# Altium footprint library atmega16820au.PcbLib: 13 footprints
Each footprint in its own frame and in the unit in brackets; x right, y up, seen from the top. Pads: shape width x height; smd on the part's side, far side on the other; paste and mask are expansions set on the pad; w line width, h text height; cw(c..) or ccw(c..) is an arc to the next point about the centre after c.
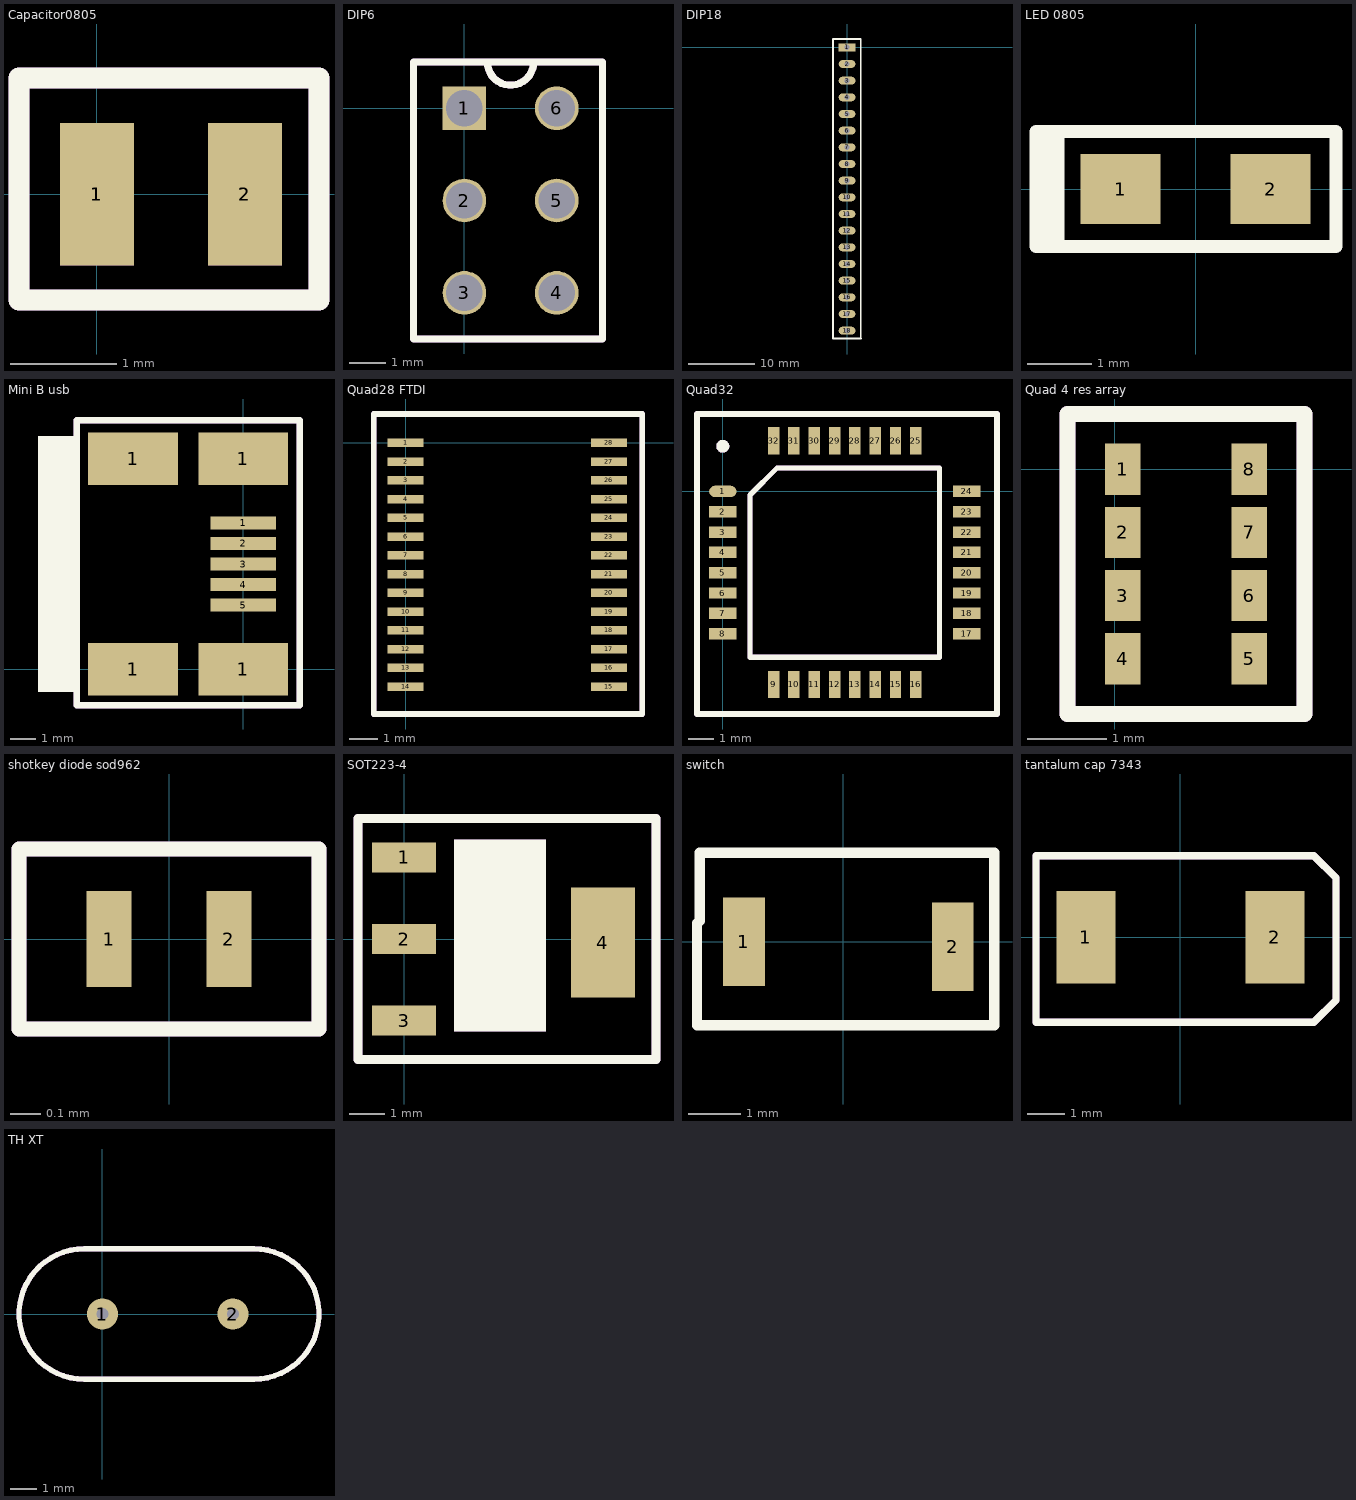
[diagram p0: the footprints below, top view; thin cyan lines are the x and y axes]

## Capacitor0805 [mm]
pads (4):
  rect 0.7x1.35 smd: 1(0,0) 2(1.4,0)
  rect 0.7x1.35 on Mech29: 1(0,0) 2(1.4,0)
Top Overlay:
  lines w0.2: -0.7,-1 -0.737,-1 ; 2.075,-1 0.637,-1 -0.737,-1 ; 2.1,-1 2.1,1.1 -0.737,1.1 -0.737,-1
Mechanical 29 (Mech29):
  lines w0.2: -0.7,-1 -0.737,-1 ; 2.075,-1 0.637,-1 -0.737,-1 ; 2.1,-1 2.1,1.1 -0.737,1.1 -0.737,-1
  text "Designator" at 0.8,0.333 h0.7
3D body "c0805c101k5gactu.stp": height 0.89, standoff 0.01, extent -0.4,-0.7 1.8,0.75
3D body "c0805c101k5gactu.stp": height 0.89, standoff 0.01, extent -0.4,-0.7 1.8,0.75

## DIP6 [mm]
pads (6):
  rect 1.2x1.2 hole 1: 1(0,0)
  round 1.2 hole 1: 2(0,-2.54) 3(0,-5.08) 4(2.54,-5.08) 5(2.54,-2.54) 6(2.54,0)
Top Overlay:
  lines w0.2: -1.4,-6.35 3.8,-6.35 3.8,1.27 0.635,1.27 ccw(c1.27,1.27) 1.905,1.27 -1.4,1.27 -1.4,-6.35
Mechanical 29 (Mech29):
  lines w0.2: -1.4,-6.35 3.8,-6.35 3.8,1.27 0.635,1.27 ccw(c1.27,1.27) 1.905,1.27 -1.4,1.27 -1.4,-6.35
  text "'.Designator'" at 1.5,-2.067 h0.7
3D body "User Library-HEADER, 2X3, 2_54MM X 2_54MM PITCH, VERT, TH.step": height 8.39, standoff -3.8, extent -1.3,-6.31 3.78,1.31

## DIP18 [mm]
pads (18):
  rect 2.5x1.2 hole 0.8: 1(0,0)
  oval 2.5x1.2 hole 0.8: 2(0,-2.5) 3(0,-5) 4(0,-7.5) 5(0,-10) 6(0,-12.5) 7(0,-15) 8(0,-17.5) 9(0,-20) 10(0,-22.5) 11(0,-25) 12(0,-27.5) 13(0,-30) 14(0,-32.5) 15(0,-35) 16(0,-37.5) 17(0,-40) 18(0,-42.5)
Top Overlay:
  lines w0.2: 2.05,1.25 2.085,1.215 2.085,-43.675
  lines w0.254: 2.05,1.25 -1.55,1.25 -2.1,1.25 -2.1,-43.675 2.085,-43.675

## LED 0805 [mm]
pads (2):
  rect 1.25x1.1 smd: 1(-1.175,0) 2(1.175,0)
Top Overlay:
  rectangle: -2.5,-0.9 -2.15,0.9
  lines w0.2: -2.15,-0.9 -2.5,-0.9 -2.5,0.9 -2.15,0.9 ; -2.15,-0.9 -2.15,0 -2.15,0.9 ; -2.15,-0.9 2.2,-0.9 2.2,0.9 -2.15,0.9
3D body "User Library-LED SMD0805.step": height 0.85, standoff 0.01, extent -1.031,-0.406 1.031,0.5

## Mini B usb [mm]
pads (9):
  rect 3.5x2.05 smd: 1(-4.3,0) 1(-4.3,8.2) 1(0,0) 1(0,8.2)
  rect 2.55x0.5 smd: 1(0,5.7) 2(0,4.9) 3(0,4.1) 4(0,3.3) 5(0,2.5)
Top Overlay:
  rectangle: -8,-0.9 -6.6,9.1
  lines w0.254: -6.5,-1.4 -6.5,9.7 2.2,9.7 2.2,-1.4 -6.5,-1.4
Mechanical 29 (Mech29):
  rectangle: -8,-0.9 -6.6,9.1
  lines w0.254: -6.5,-1.4 -6.5,9.7 2.2,9.7 2.2,-1.4 -6.5,-1.4
  text "'.Designator'" at -2.3,4.733 h0.7
3D body "usb_a-usb_b-m5-smd-c.stp": height 3.86, standoff -0.99, extent -8,-0.85 1.2,9.05

## Quad28 FTDI [mm]
pads (28):
  rect 1.25x0.3 smd: 1(0,0) 2(0,-0.65) 3(0,-1.3) 4(0,-1.95) 5(0,-2.6) 6(0,-3.25) 7(0,-3.9) 8(0,-4.55) 9(0,-5.2) 10(0,-5.85) 11(0,-6.5) 12(0,-7.15) 13(0,-7.8) 14(0,-8.45) 15(7.05,-8.45) 16(7.05,-7.8) 17(7.05,-7.15) 18(7.05,-6.5) 19(7.05,-5.85) 20(7.05,-5.2) 21(7.05,-4.55) 22(7.05,-3.9) 23(7.05,-3.25) 24(7.05,-2.6) 25(7.05,-1.95) 26(7.05,-1.3) 27(7.05,-0.65) 28(7.05,0)
Top Overlay:
  lines w0.2: -1.1,-9.4 8.2,-9.4 8.2,1 -1.1,1 -1.1,-9.4
Mechanical 29 (Mech29):
  lines w0.2: -1.1,-9.4 8.2,-9.4 8.2,1 -1.1,1 -1.1,-9.4
  text "'.Designator'" at 3.7,-3.367 h0.7
3D body "User Library-SSOP-28-3.STEP": height 1.9, standoff 0, extent -0.3,-9.3 7.5,0.9

## Quad32 [mm]
pads (32):
  oval 1.075x0.45 smd: 1(0,0)
  rect 1.075x0.45 smd: 2(0,-0.8) 3(0,-1.6) 4(0,-2.4) 5(0,-3.2) 6(0,-4) 7(0,-4.8) 8(0,-5.6) 17(9.6,-5.6) 18(9.6,-4.8) 19(9.6,-4) 20(9.6,-3.2) 21(9.6,-2.4) 22(9.6,-1.6) 23(9.6,-0.8) 24(9.6,0)
  rect 0.45x1.075 smd: 9(2,-7.6) 10(2.8,-7.6) 11(3.6,-7.6) 12(4.4,-7.6) 13(5.2,-7.6) 14(6,-7.6) 15(6.8,-7.6) 16(7.6,-7.6) 25(7.6,2) 26(6.8,2) 27(6,2) 28(5.2,2) 29(4.4,2) 30(3.6,2) 31(2.8,2) 32(2,2)
Top Overlay:
  circle w0.254: c0,1.778 r0.127
  lines w0.2: 1.072,-6.528 1.072,-0.145 2.145,0.928 8.528,0.928 8.528,-6.528 1.072,-6.528
  lines w0.254: -1.016,-8.763 -1.016,3.048 10.795,3.048 10.795,-8.763 -1.016,-8.763
Mechanical 29 (Mech29):
  circle w0.254: c0,1.778 r0.127
  lines w0.2: 1.072,-6.528 1.072,-0.145 2.145,0.928 8.528,0.928 8.528,-6.528 1.072,-6.528
  lines w0.254: -1.016,-8.763 -1.016,3.048 10.795,3.048 10.795,-8.763 -1.016,-8.763
  text "'.Designator'" at 4.545,-2.588 h0.7
3D body "User Library-Atmel Atmega 48p Case 32A.step": height 1.15, standoff -0.05, extent 0.32,-7.3 9.332,1.712

## Quad 4 res array [mm]
pads (8):
  rect 0.45x0.65 smd: 1(0.1,0) 2(0.1,-0.8) 3(0.1,-1.6) 4(0.1,-2.4) 5(1.7,-2.4) 6(1.7,-1.6) 7(1.7,-0.8) 8(1.7,0)
Top Overlay:
  lines w0.2: -0.6,-3.1 2.4,-3.1 2.4,0.7 -0.6,0.7 -0.6,-0.92 -0.6,-2.28 -0.6,-3.1
Mechanical 29 (Mech29):
  lines w0.2: -0.6,-3.1 2.4,-3.1 2.4,0.7 -0.6,0.7 -0.6,-0.92 -0.6,-2.28 -0.6,-3.1
  text "'.Designator'" at 0.1,-1.067 h0.7
3D body "cay16-153j4lf.stp": height 0.51, standoff 0.01, extent 0.1,-2.8 1.7,0.4

## shotkey diode sod962 [mm]
pads (2):
  rect 0.15x0.32 smd: 1(-0.2,0) 2(0.2,0)
Top Overlay:
  lines w0.05: -0.5,-0.3 -0.5,0 -0.5,0.3 0.5,0.3 0.5,-0.3 -0.5,-0.3
Mechanical 29 (Mech29):
  lines w0.05: -0.5,-0.3 -0.25,-0.3 0.25,-0.3 0.5,-0.3 0.5,0.3 -0.5,0.3 -0.5,0 -0.5,-0.3
  text "'.Designator'" at 0.05,0.15 h0.3
3D body "User Library-SOD962.step": height 0.33, standoff 0, extent -0.3,-0.15 0.3,0.15

## SOT223-4 [mm]
pads (4):
  rect 1.8x0.84 smd: 1(0,2.3) 2(0,0) 3(0,-2.3)
  rect 1.8x3.1 smd: 4(5.6,-0.1)
Top Overlay:
  rectangle: 1.4,-2.6 4,2.8
  lines w0.254: -1.3,-3.4 7.1,-3.4 7.1,3.4 -1.3,3.4 -1.3,-3.4
Mechanical 29 (Mech29):
  rectangle: 1.4,-2.6 4,2.8
  lines w0.254: -1.3,-3.4 7.1,-3.4 7.1,3.4 -1.3,3.4 -1.3,-3.4
  text "'.Designator'" at 2.9,0.833 h0.7
3D body "User Library-SOT-223-1.step": height 1.61, standoff -0.04, extent -0.7,-3.25 6.3,3.25

## switch [mm]
pads (2):
  rect 0.8x1.7 smd: 1(-1.9,0) 2(2.1,-0.1)
Top Overlay:
  lines w0.2: -2.8,0.35 -2.8,-1.6 -1.3,-1.6 1.5,-1.6 2.9,-1.6 2.9,-0.65 2.9,0.65 2.9,1.7 1.437,1.7 -1.288,1.7 -2.75,1.7 -2.75,0.4
3D body "User Library-Pushbutton3x4x2.step": height 2.01, standoff 0.01, extent -2.4,-1.45 2.5,1.45

## tantalum cap 7343 [mm]
pads (2):
  rect 1.6x2.5 smd: 1(-2.55,0) 2(2.55,0)
Top Overlay:
  lines w0.2: -3.9,-2.3 -3.9,0 -3.9,2.2 -2.396,2.2 3.6,2.2 4.2,1.6 4.2,-1.7 3.6,-2.3 -3.9,-2.3
Mechanical 29 (Mech29):
  lines w0.2: 3.6,-2.3 4.2,-1.7 4.2,-1.5 4.2,1.6 3.6,2.2 -2.492,2.2 -3.9,2.2 -3.9,0 -3.9,-2.3 2.8,-2.3 3.6,-2.3 ; 3.6,-2.3 3.6,-2.3
  text "'.Designator'" at 0.1,0.333 h0.7
3D body "User Library-Tantalum Cap Case D.step": height 2.8, standoff 0, extent -3.57,-2.25 3.57,2.05

## TH XT [mm]
pads (2):
  round 1.2 hole 0.457: 1(0,0) 2(5,0)
Top Overlay:
  lines w0.2: -0.692,-2.5 cw(c-0.7,0) -0.692,2.5 5.8,2.5 cw(c5.8,0) 5.8,-2.5 -0.692,-2.5
Mechanical 29 (Mech29):
  lines w0.2: -0.7,-2.5 cw(c-0.7,0) -0.7,2.5 ; -0.692,-2.5 5.8,-2.5 ccw(c5.8,0) 5.8,2.5 ; -0.692,2.5 5.708,2.5
  text "'.Designator'" at 2.6,0.333 h0.7
3D body "User Library-hc49us-1.step": height 3.5, standoff -3, extent -3.25,-2.325 8.25,2.325